# Altium schematic symbol library Schlib1.SchLib: 6 symbols
Pins are listed as number, name and electrical type; pins without a type are passive.

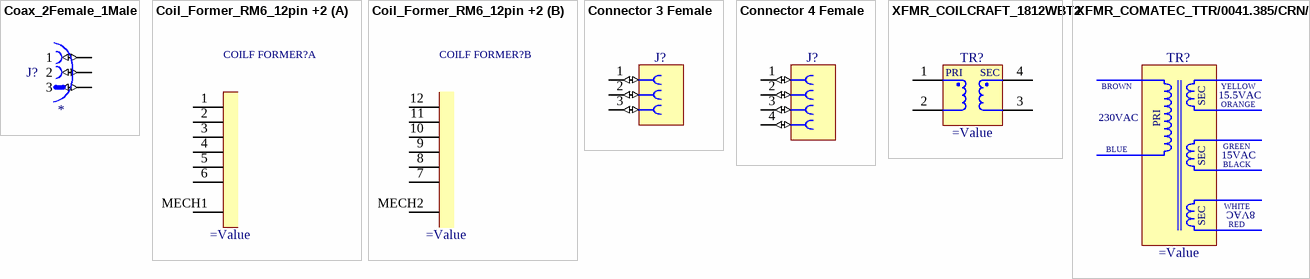
[diagram p0: symbols Coax_2Female_1Male to XFMR_COMATEC_TTR/0041.385/CRN/01]

## Coax_2Female_1Male
designator J?
pins: 1 (io), 2 (io), 3 (io)

## Coil_Former_RM6_12pin +2
designator COILF FORMER?
RM6 Coil Former 12pins +2pins
part A pins: 1, 2, 3, 4, 5, 6, MECH1
part B pins: 7, 8, 9, 10, 11, 12, MECH2

## Connector 3 Female
designator J?
Connector 3 Female
pins: 1 (io), 2 (io), 3 (io)
1 alternate drawing of the same symbol

## Connector 4 Female
designator J?
Connector 4 Female
pins: 1 (io), 2 (io), 3 (io), 4 (io)
1 alternate drawing of the same symbol

## XFMR_COILCRAFT_1812WBT2
designator TR?
Surface Mount Wideband RF Transformer
pins: 1 PDOT, 2 P, 3 S, 4 SDOT
text: PRI; SEC

## XFMR_COMATEC_TTR/0041.385/CRN/01
designator TR?
230VAC to 15VAC and 15.5VAC and 8VAC Toroidal 15VA Transformer
text: BROWN; YELLOW; SEC; 15.5VAC; ORANGE; 230VAC; PRI; BLUE; GREEN; 15VAC; BLACK; WHITE; 8VAC; RED